# Altium schematic symbol library jlcpcb_2025_04_resistors_extended_1812.schlib: 557 symbols (part 8 of 9)
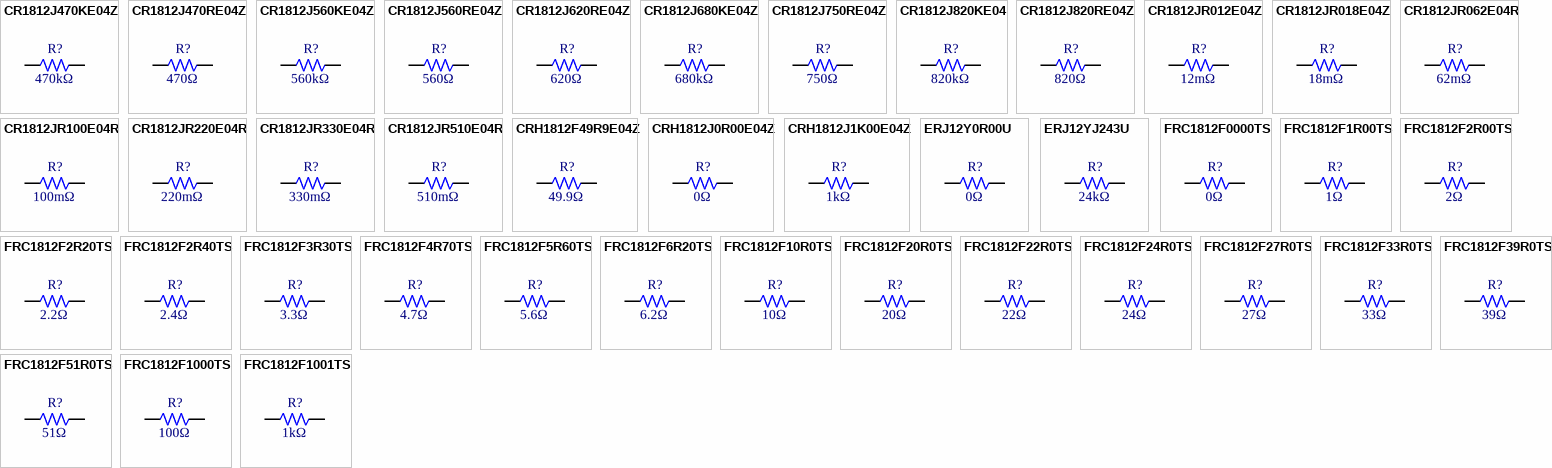
[diagram p20: symbols CR1812J470KE04Z to FRC1812F1001TS]

## FRC1812F1000TS
designator R?  Resistance: 100Ω  (hidden comment: *)
Resistor, 100Ω, ±1%, 750mW, 200V, ±100ppm/℃, -55℃~+155℃, SMD 1812; Manufacturer: Uniroyal; Manufacturer Part Number: FRC1812F1000TS; Supplier 1: LCSC; Supplier Part Number 1: C2960853; JLCPCB Part Number: C2960853; Power Rating: 750mW; Category: Resistors; Package Size: 1812; JLCPCB Basic Part: Yes; Tolerance: ±1%; Voltage Rating: 200V; Temperature Coefficient: ±100ppm/℃; Temperature Rating: -55℃~+155℃; ComponentLink1Description: Datasheet; ComponentLink1URL: https://wmsc.lcsc.com/wmsc/upload/file/pdf/v2/lcsc/2308241947_FOJAN-FRC1812F1000TS_C2960853.pdf; ComponentLink2Description: JLCPCB Part URL; ComponentLink2URL: https://jlcpcb.com/partdetail/C2960853
pins: 1, 2
1 alternate drawing of the same symbol

## FRC1812F1001TS
designator R?  Resistance: 1kΩ  (hidden comment: *)
Resistor, 1kΩ, ±1%, 750mW, 200V, ±100ppm/℃, -55℃~+155℃, SMD 1812; Manufacturer: Uniroyal; Manufacturer Part Number: FRC1812F1001TS; Supplier 1: LCSC; Supplier Part Number 1: C2960710; JLCPCB Part Number: C2960710; Power Rating: 750mW; Category: Resistors; Package Size: 1812; JLCPCB Basic Part: Yes; Tolerance: ±1%; Voltage Rating: 200V; Temperature Coefficient: ±100ppm/℃; Temperature Rating: -55℃~+155℃; ComponentLink1Description: Datasheet; ComponentLink1URL: https://wmsc.lcsc.com/wmsc/upload/file/pdf/v2/lcsc/2308241947_FOJAN-FRC1812F1001TS_C2960710.pdf; ComponentLink2Description: JLCPCB Part URL; ComponentLink2URL: https://jlcpcb.com/partdetail/C2960710
pins: 1, 2
1 alternate drawing of the same symbol

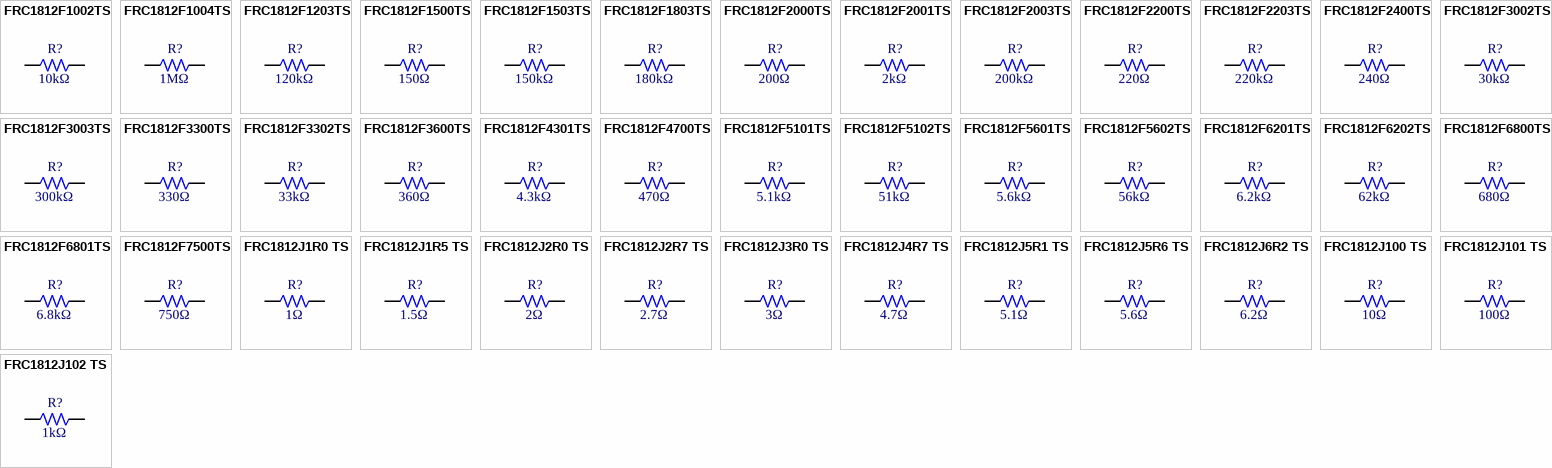
[diagram p11: symbols FRC1812F1002TS to FRC1812J102 TS]

## FRC1812F1002TS
designator R?  Resistance: 10kΩ  (hidden comment: *)
Resistor, 10kΩ, ±1%, 750mW, 200V, SMD 1812; Manufacturer: Uniroyal; Manufacturer Part Number: FRC1812F1002TS; Supplier 1: LCSC; Supplier Part Number 1: C2999614; JLCPCB Part Number: C2999614; Power Rating: 750mW; Category: Resistors; Package Size: 1812; JLCPCB Basic Part: Yes; Tolerance: ±1%; Voltage Rating: 200V; ComponentLink1Description: Datasheet; ComponentLink1URL: https://wmsc.lcsc.com/wmsc/upload/file/pdf/v2/lcsc/2308241947_FOJAN-FRC1812F1002TS_C2999614.pdf; ComponentLink2Description: JLCPCB Part URL; ComponentLink2URL: https://jlcpcb.com/partdetail/C2999614
pins: 1, 2
1 alternate drawing of the same symbol

## FRC1812F1004TS
designator R?  Resistance: 1MΩ  (hidden comment: *)
Resistor, 1MΩ, ±1%, 750mW, 200V, ±100ppm/℃, -55℃~+155℃, SMD 1812; Manufacturer: Uniroyal; Manufacturer Part Number: FRC1812F1004TS; Supplier 1: LCSC; Supplier Part Number 1: C2933874; JLCPCB Part Number: C2933874; Power Rating: 750mW; Category: Resistors; Package Size: 1812; JLCPCB Basic Part: Yes; Tolerance: ±1%; Voltage Rating: 200V; Temperature Coefficient: ±100ppm/℃; Temperature Rating: -55℃~+155℃; ComponentLink1Description: Datasheet; ComponentLink1URL: https://wmsc.lcsc.com/wmsc/upload/file/pdf/v2/lcsc/2308241115_FOJAN-FRC1812F1004TS_C2933874.pdf; ComponentLink2Description: JLCPCB Part URL; ComponentLink2URL: https://jlcpcb.com/partdetail/C2933874
pins: 1, 2
1 alternate drawing of the same symbol

## FRC1812F1203TS
designator R?  Resistance: 120kΩ  (hidden comment: *)
Resistor, 120kΩ, ±1%, 750mW, 200V, ±100ppm/℃, -55℃~+155℃, SMD 1812; Manufacturer: Uniroyal; Manufacturer Part Number: FRC1812F1203TS; Supplier 1: LCSC; Supplier Part Number 1: C2933876; JLCPCB Part Number: C2933876; Power Rating: 750mW; Category: Resistors; Package Size: 1812; JLCPCB Basic Part: Yes; Tolerance: ±1%; Voltage Rating: 200V; Temperature Coefficient: ±100ppm/℃; Temperature Rating: -55℃~+155℃; ComponentLink1Description: Datasheet; ComponentLink1URL: https://wmsc.lcsc.com/wmsc/upload/file/pdf/v2/lcsc/2308241115_FOJAN-FRC1812F1203TS_C2933876.pdf; ComponentLink2Description: JLCPCB Part URL; ComponentLink2URL: https://jlcpcb.com/partdetail/C2933876
pins: 1, 2
1 alternate drawing of the same symbol

## FRC1812F1500TS
designator R?  Resistance: 150Ω  (hidden comment: *)
Resistor, 150Ω, ±1%, 750mW, 200V, ±100ppm/℃, -55℃~+155℃, SMD 1812; Manufacturer: Uniroyal; Manufacturer Part Number: FRC1812F1500TS; Supplier 1: LCSC; Supplier Part Number 1: C2933878; JLCPCB Part Number: C2933878; Power Rating: 750mW; Category: Resistors; Package Size: 1812; JLCPCB Basic Part: Yes; Tolerance: ±1%; Voltage Rating: 200V; Temperature Coefficient: ±100ppm/℃; Temperature Rating: -55℃~+155℃; ComponentLink1Description: Datasheet; ComponentLink1URL: https://wmsc.lcsc.com/wmsc/upload/file/pdf/v2/lcsc/2308241115_FOJAN-FRC1812F1500TS_C2933878.pdf; ComponentLink2Description: JLCPCB Part URL; ComponentLink2URL: https://jlcpcb.com/partdetail/C2933878
pins: 1, 2
1 alternate drawing of the same symbol

## FRC1812F1503TS
designator R?  Resistance: 150kΩ  (hidden comment: *)
Resistor, 150kΩ, ±1%, 750mW, 200V, ±100ppm/℃, -55℃~+155℃, SMD 1812; Manufacturer: Uniroyal; Manufacturer Part Number: FRC1812F1503TS; Supplier 1: LCSC; Supplier Part Number 1: C2933879; JLCPCB Part Number: C2933879; Power Rating: 750mW; Category: Resistors; Package Size: 1812; JLCPCB Basic Part: Yes; Tolerance: ±1%; Voltage Rating: 200V; Temperature Coefficient: ±100ppm/℃; Temperature Rating: -55℃~+155℃; ComponentLink1Description: Datasheet; ComponentLink1URL: https://wmsc.lcsc.com/wmsc/upload/file/pdf/v2/lcsc/2308241115_FOJAN-FRC1812F1503TS_C2933879.pdf; ComponentLink2Description: JLCPCB Part URL; ComponentLink2URL: https://jlcpcb.com/partdetail/C2933879
pins: 1, 2
1 alternate drawing of the same symbol

## FRC1812F1803TS
designator R?  Resistance: 180kΩ  (hidden comment: *)
Resistor, 180kΩ, ±1%, 750mW, 200V, ±100ppm/℃, -55℃~+155℃, SMD 1812; Manufacturer: Uniroyal; Manufacturer Part Number: FRC1812F1803TS; Supplier 1: LCSC; Supplier Part Number 1: C2933882; JLCPCB Part Number: C2933882; Power Rating: 750mW; Category: Resistors; Package Size: 1812; JLCPCB Basic Part: Yes; Tolerance: ±1%; Voltage Rating: 200V; Temperature Coefficient: ±100ppm/℃; Temperature Rating: -55℃~+155℃; ComponentLink1Description: Datasheet; ComponentLink1URL: https://wmsc.lcsc.com/wmsc/upload/file/pdf/v2/lcsc/2308241115_FOJAN-FRC1812F1803TS_C2933882.pdf; ComponentLink2Description: JLCPCB Part URL; ComponentLink2URL: https://jlcpcb.com/partdetail/C2933882
pins: 1, 2
1 alternate drawing of the same symbol

## FRC1812F2000TS
designator R?  Resistance: 200Ω  (hidden comment: *)
Resistor, 200Ω, ±1%, 750mW, 200V, ±100ppm/℃, -55℃~+155℃, SMD 1812; Manufacturer: Uniroyal; Manufacturer Part Number: FRC1812F2000TS; Supplier 1: LCSC; Supplier Part Number 1: C2974073; JLCPCB Part Number: C2974073; Power Rating: 750mW; Category: Resistors; Package Size: 1812; JLCPCB Basic Part: Yes; Tolerance: ±1%; Voltage Rating: 200V; Temperature Coefficient: ±100ppm/℃; Temperature Rating: -55℃~+155℃; ComponentLink1Description: Datasheet; ComponentLink1URL: https://wmsc.lcsc.com/wmsc/upload/file/pdf/v2/lcsc/2202151130_FOJAN-FRC1812F2000TS_C2974073.pdf; ComponentLink2Description: JLCPCB Part URL; ComponentLink2URL: https://jlcpcb.com/partdetail/C2974073
pins: 1, 2
1 alternate drawing of the same symbol

## FRC1812F2001TS
designator R?  Resistance: 2kΩ  (hidden comment: *)
Resistor, 2kΩ, ±1%, 750mW, 200V, ±100ppm/℃, SMD 1812; Manufacturer: Uniroyal; Manufacturer Part Number: FRC1812F2001TS; Supplier 1: LCSC; Supplier Part Number 1: C2999579; JLCPCB Part Number: C2999579; Power Rating: 750mW; Category: Resistors; Package Size: 1812; JLCPCB Basic Part: Yes; Tolerance: ±1%; Voltage Rating: 200V; Temperature Coefficient: ±100ppm/℃; ComponentLink1Description: Datasheet; ComponentLink1URL: https://wmsc.lcsc.com/wmsc/upload/file/pdf/v2/lcsc/2308241947_FOJAN-FRC1812F2001TS_C2999579.pdf; ComponentLink2Description: JLCPCB Part URL; ComponentLink2URL: https://jlcpcb.com/partdetail/C2999579
pins: 1, 2
1 alternate drawing of the same symbol

## FRC1812F2003TS
designator R?  Resistance: 200kΩ  (hidden comment: *)
Resistor, 200kΩ, ±1%, 750mW, 200V, ±100ppm/℃, -55℃~+155℃, SMD 1812; Manufacturer: Uniroyal; Manufacturer Part Number: FRC1812F2003TS; Supplier 1: LCSC; Supplier Part Number 1: C2933883; JLCPCB Part Number: C2933883; Power Rating: 750mW; Category: Resistors; Package Size: 1812; JLCPCB Basic Part: Yes; Tolerance: ±1%; Voltage Rating: 200V; Temperature Coefficient: ±100ppm/℃; Temperature Rating: -55℃~+155℃; ComponentLink1Description: Datasheet; ComponentLink1URL: https://wmsc.lcsc.com/wmsc/upload/file/pdf/v2/lcsc/2308241115_FOJAN-FRC1812F2003TS_C2933883.pdf; ComponentLink2Description: JLCPCB Part URL; ComponentLink2URL: https://jlcpcb.com/partdetail/C2933883
pins: 1, 2
1 alternate drawing of the same symbol

## FRC1812F2200TS
designator R?  Resistance: 220Ω  (hidden comment: *)
Resistor, 220Ω, ±1%, 750mW, 200V, ±100ppm/℃, -55℃~+155℃, SMD 1812; Manufacturer: Uniroyal; Manufacturer Part Number: FRC1812F2200TS; Supplier 1: LCSC; Supplier Part Number 1: C2960905; JLCPCB Part Number: C2960905; Power Rating: 750mW; Category: Resistors; Package Size: 1812; JLCPCB Basic Part: Yes; Tolerance: ±1%; Voltage Rating: 200V; Temperature Coefficient: ±100ppm/℃; Temperature Rating: -55℃~+155℃; ComponentLink1Description: Datasheet; ComponentLink1URL: https://wmsc.lcsc.com/wmsc/upload/file/pdf/v2/lcsc/2308241947_FOJAN-FRC1812F2200TS_C2960905.pdf; ComponentLink2Description: JLCPCB Part URL; ComponentLink2URL: https://jlcpcb.com/partdetail/C2960905
pins: 1, 2
1 alternate drawing of the same symbol

## FRC1812F2203TS
designator R?  Resistance: 220kΩ  (hidden comment: *)
Resistor, 220kΩ, ±1%, 750mW, 200V, ±100ppm/℃, -55℃~+155℃, SMD 1812; Manufacturer: Uniroyal; Manufacturer Part Number: FRC1812F2203TS; Supplier 1: LCSC; Supplier Part Number 1: C2933885; JLCPCB Part Number: C2933885; Power Rating: 750mW; Category: Resistors; Package Size: 1812; JLCPCB Basic Part: Yes; Tolerance: ±1%; Voltage Rating: 200V; Temperature Coefficient: ±100ppm/℃; Temperature Rating: -55℃~+155℃; ComponentLink1Description: Datasheet; ComponentLink1URL: https://wmsc.lcsc.com/wmsc/upload/file/pdf/v2/lcsc/2308241115_FOJAN-FRC1812F2203TS_C2933885.pdf; ComponentLink2Description: JLCPCB Part URL; ComponentLink2URL: https://jlcpcb.com/partdetail/C2933885
pins: 1, 2
1 alternate drawing of the same symbol

## FRC1812F2400TS
designator R?  Resistance: 240Ω  (hidden comment: *)
Resistor, 240Ω, ±1%, 750mW, 200V, ±100ppm/℃, -55℃~+155℃, SMD 1812; Manufacturer: Uniroyal; Manufacturer Part Number: FRC1812F2400TS; Supplier 1: LCSC; Supplier Part Number 1: C2933886; JLCPCB Part Number: C2933886; Power Rating: 750mW; Category: Resistors; Package Size: 1812; JLCPCB Basic Part: Yes; Tolerance: ±1%; Voltage Rating: 200V; Temperature Coefficient: ±100ppm/℃; Temperature Rating: -55℃~+155℃; ComponentLink1Description: Datasheet; ComponentLink1URL: https://wmsc.lcsc.com/wmsc/upload/file/pdf/v2/lcsc/2308241115_FOJAN-FRC1812F2400TS_C2933886.pdf; ComponentLink2Description: JLCPCB Part URL; ComponentLink2URL: https://jlcpcb.com/partdetail/C2933886
pins: 1, 2
1 alternate drawing of the same symbol

## FRC1812F3002TS
designator R?  Resistance: 30kΩ  (hidden comment: *)
Resistor, 30kΩ, ±1%, 750mW, 200V, ±100ppm/℃, -55℃~+155℃, SMD 1812; Manufacturer: Uniroyal; Manufacturer Part Number: FRC1812F3002TS; Supplier 1: LCSC; Supplier Part Number 1: C2933893; JLCPCB Part Number: C2933893; Power Rating: 750mW; Category: Resistors; Package Size: 1812; JLCPCB Basic Part: Yes; Tolerance: ±1%; Voltage Rating: 200V; Temperature Coefficient: ±100ppm/℃; Temperature Rating: -55℃~+155℃; ComponentLink1Description: Datasheet; ComponentLink1URL: https://wmsc.lcsc.com/wmsc/upload/file/pdf/v2/lcsc/2308241115_FOJAN-FRC1812F3002TS_C2933893.pdf; ComponentLink2Description: JLCPCB Part URL; ComponentLink2URL: https://jlcpcb.com/partdetail/C2933893
pins: 1, 2
1 alternate drawing of the same symbol

## FRC1812F3003TS
designator R?  Resistance: 300kΩ  (hidden comment: *)
Resistor, 300kΩ, ±1%, 750mW, 200V, ±100ppm/℃, SMD 1812; Manufacturer: Uniroyal; Manufacturer Part Number: FRC1812F3003TS; Supplier 1: LCSC; Supplier Part Number 1: C3013292; JLCPCB Part Number: C3013292; Power Rating: 750mW; Category: Resistors; Package Size: 1812; JLCPCB Basic Part: Yes; Tolerance: ±1%; Voltage Rating: 200V; Temperature Coefficient: ±100ppm/℃; ComponentLink1Description: Datasheet; ComponentLink1URL: https://wmsc.lcsc.com/wmsc/upload/file/pdf/v2/lcsc/2308241947_FOJAN-FRC1812F3003TS_C3013292.pdf; ComponentLink2Description: JLCPCB Part URL; ComponentLink2URL: https://jlcpcb.com/partdetail/C3013292
pins: 1, 2
1 alternate drawing of the same symbol

## FRC1812F3300TS
designator R?  Resistance: 330Ω  (hidden comment: *)
Resistor, 330Ω, ±1%, 750mW, 200V, ±100ppm/℃, -55℃~+155℃, SMD 1812; Manufacturer: Uniroyal; Manufacturer Part Number: FRC1812F3300TS; Supplier 1: LCSC; Supplier Part Number 1: C2960867; JLCPCB Part Number: C2960867; Power Rating: 750mW; Category: Resistors; Package Size: 1812; JLCPCB Basic Part: Yes; Tolerance: ±1%; Voltage Rating: 200V; Temperature Coefficient: ±100ppm/℃; Temperature Rating: -55℃~+155℃; ComponentLink1Description: Datasheet; ComponentLink1URL: https://wmsc.lcsc.com/wmsc/upload/file/pdf/v2/lcsc/2308241947_FOJAN-FRC1812F3300TS_C2960867.pdf; ComponentLink2Description: JLCPCB Part URL; ComponentLink2URL: https://jlcpcb.com/partdetail/C2960867
pins: 1, 2
1 alternate drawing of the same symbol

## FRC1812F3302TS
designator R?  Resistance: 33kΩ  (hidden comment: *)
Resistor, 33kΩ, ±1%, 750mW, 200V, ±100ppm/℃, -55℃~+155℃, SMD 1812; Manufacturer: Uniroyal; Manufacturer Part Number: FRC1812F3302TS; Supplier 1: LCSC; Supplier Part Number 1: C2960884; JLCPCB Part Number: C2960884; Power Rating: 750mW; Category: Resistors; Package Size: 1812; JLCPCB Basic Part: Yes; Tolerance: ±1%; Voltage Rating: 200V; Temperature Coefficient: ±100ppm/℃; Temperature Rating: -55℃~+155℃; ComponentLink1Description: Datasheet; ComponentLink1URL: https://wmsc.lcsc.com/wmsc/upload/file/pdf/v2/lcsc/2308241947_FOJAN-FRC1812F3302TS_C2960884.pdf; ComponentLink2Description: JLCPCB Part URL; ComponentLink2URL: https://jlcpcb.com/partdetail/C2960884
pins: 1, 2
1 alternate drawing of the same symbol

## FRC1812F3600TS
designator R?  Resistance: 360Ω  (hidden comment: *)
Resistor, 360Ω, ±1%, 750mW, 200V, ±100ppm/℃, -55℃~+155℃, SMD 1812; Manufacturer: Uniroyal; Manufacturer Part Number: FRC1812F3600TS; Supplier 1: LCSC; Supplier Part Number 1: C2933895; JLCPCB Part Number: C2933895; Power Rating: 750mW; Category: Resistors; Package Size: 1812; JLCPCB Basic Part: Yes; Tolerance: ±1%; Voltage Rating: 200V; Temperature Coefficient: ±100ppm/℃; Temperature Rating: -55℃~+155℃; ComponentLink1Description: Datasheet; ComponentLink1URL: https://wmsc.lcsc.com/wmsc/upload/file/pdf/v2/lcsc/2308241115_FOJAN-FRC1812F3600TS_C2933895.pdf; ComponentLink2Description: JLCPCB Part URL; ComponentLink2URL: https://jlcpcb.com/partdetail/C2933895
pins: 1, 2
1 alternate drawing of the same symbol

## FRC1812F4301TS
designator R?  Resistance: 4.3kΩ  (hidden comment: *)
Resistor, 4.3kΩ, ±1%, 750mW, 200V, ±100ppm/℃, SMD 1812; Manufacturer: Uniroyal; Manufacturer Part Number: FRC1812F4301TS; Supplier 1: LCSC; Supplier Part Number 1: C3000760; JLCPCB Part Number: C3000760; Power Rating: 750mW; Category: Resistors; Package Size: 1812; JLCPCB Basic Part: Yes; Tolerance: ±1%; Voltage Rating: 200V; Temperature Coefficient: ±100ppm/℃; ComponentLink1Description: Datasheet; ComponentLink1URL: https://wmsc.lcsc.com/wmsc/upload/file/pdf/v2/lcsc/2308241947_FOJAN-FRC1812F4301TS_C3000760.pdf; ComponentLink2Description: JLCPCB Part URL; ComponentLink2URL: https://jlcpcb.com/partdetail/C3000760
pins: 1, 2
1 alternate drawing of the same symbol

## FRC1812F4700TS
designator R?  Resistance: 470Ω  (hidden comment: *)
Resistor, 470Ω, ±1%, 750mW, 200V, ±100ppm/℃, -55℃~+155℃, SMD 1812; Manufacturer: Uniroyal; Manufacturer Part Number: FRC1812F4700TS; Supplier 1: LCSC; Supplier Part Number 1: C2933896; JLCPCB Part Number: C2933896; Power Rating: 750mW; Category: Resistors; Package Size: 1812; JLCPCB Basic Part: Yes; Tolerance: ±1%; Voltage Rating: 200V; Temperature Coefficient: ±100ppm/℃; Temperature Rating: -55℃~+155℃; ComponentLink1Description: Datasheet; ComponentLink1URL: https://wmsc.lcsc.com/wmsc/upload/file/pdf/v2/lcsc/2308241115_FOJAN-FRC1812F4700TS_C2933896.pdf; ComponentLink2Description: JLCPCB Part URL; ComponentLink2URL: https://jlcpcb.com/partdetail/C2933896
pins: 1, 2
1 alternate drawing of the same symbol

## FRC1812F5101TS
designator R?  Resistance: 5.1kΩ  (hidden comment: *)
Resistor, 5.1kΩ, ±1%, 750mW, 200V, ±100ppm/℃, -55℃~+155℃, SMD 1812; Manufacturer: Uniroyal; Manufacturer Part Number: FRC1812F5101TS; Supplier 1: LCSC; Supplier Part Number 1: C2933899; JLCPCB Part Number: C2933899; Power Rating: 750mW; Category: Resistors; Package Size: 1812; JLCPCB Basic Part: Yes; Tolerance: ±1%; Voltage Rating: 200V; Temperature Coefficient: ±100ppm/℃; Temperature Rating: -55℃~+155℃; ComponentLink1Description: Datasheet; ComponentLink1URL: https://wmsc.lcsc.com/wmsc/upload/file/pdf/v2/lcsc/2308241115_FOJAN-FRC1812F5101TS_C2933899.pdf; ComponentLink2Description: JLCPCB Part URL; ComponentLink2URL: https://jlcpcb.com/partdetail/C2933899
pins: 1, 2
1 alternate drawing of the same symbol

## FRC1812F5102TS
designator R?  Resistance: 51kΩ  (hidden comment: *)
Resistor, 51kΩ, ±1%, 750mW, 200V, ±100ppm/℃, -55℃~+155℃, SMD 1812; Manufacturer: Uniroyal; Manufacturer Part Number: FRC1812F5102TS; Supplier 1: LCSC; Supplier Part Number 1: C2933900; JLCPCB Part Number: C2933900; Power Rating: 750mW; Category: Resistors; Package Size: 1812; JLCPCB Basic Part: Yes; Tolerance: ±1%; Voltage Rating: 200V; Temperature Coefficient: ±100ppm/℃; Temperature Rating: -55℃~+155℃; ComponentLink1Description: Datasheet; ComponentLink1URL: https://wmsc.lcsc.com/wmsc/upload/file/pdf/v2/lcsc/2308241115_FOJAN-FRC1812F5102TS_C2933900.pdf; ComponentLink2Description: JLCPCB Part URL; ComponentLink2URL: https://jlcpcb.com/partdetail/C2933900
pins: 1, 2
1 alternate drawing of the same symbol

## FRC1812F5601TS
designator R?  Resistance: 5.6kΩ  (hidden comment: *)
Resistor, 5.6kΩ, ±1%, 750mW, 200V, ±100ppm/℃, SMD 1812; Manufacturer: Uniroyal; Manufacturer Part Number: FRC1812F5601TS; Supplier 1: LCSC; Supplier Part Number 1: C3000548; JLCPCB Part Number: C3000548; Power Rating: 750mW; Category: Resistors; Package Size: 1812; JLCPCB Basic Part: Yes; Tolerance: ±1%; Voltage Rating: 200V; Temperature Coefficient: ±100ppm/℃; ComponentLink1Description: Datasheet; ComponentLink1URL: https://wmsc.lcsc.com/wmsc/upload/file/pdf/v2/lcsc/2308241947_FOJAN-FRC1812F5601TS_C3000548.pdf; ComponentLink2Description: JLCPCB Part URL; ComponentLink2URL: https://jlcpcb.com/partdetail/C3000548
pins: 1, 2
1 alternate drawing of the same symbol

## FRC1812F5602TS
designator R?  Resistance: 56kΩ  (hidden comment: *)
Resistor, 56kΩ, ±1%, 750mW, 200V, ±100ppm/℃, -55℃~+155℃, SMD 1812; Manufacturer: Uniroyal; Manufacturer Part Number: FRC1812F5602TS; Supplier 1: LCSC; Supplier Part Number 1: C2933902; JLCPCB Part Number: C2933902; Power Rating: 750mW; Category: Resistors; Package Size: 1812; JLCPCB Basic Part: Yes; Tolerance: ±1%; Voltage Rating: 200V; Temperature Coefficient: ±100ppm/℃; Temperature Rating: -55℃~+155℃; ComponentLink1Description: Datasheet; ComponentLink1URL: https://wmsc.lcsc.com/wmsc/upload/file/pdf/v2/lcsc/2308241115_FOJAN-FRC1812F5602TS_C2933902.pdf; ComponentLink2Description: JLCPCB Part URL; ComponentLink2URL: https://jlcpcb.com/partdetail/C2933902
pins: 1, 2
1 alternate drawing of the same symbol

## FRC1812F6201TS
designator R?  Resistance: 6.2kΩ  (hidden comment: *)
Resistor, 6.2kΩ, ±1%, 750mW, 200V, ±100ppm/℃, -55℃~+155℃, SMD 1812; Manufacturer: Uniroyal; Manufacturer Part Number: FRC1812F6201TS; Supplier 1: LCSC; Supplier Part Number 1: C2933905; JLCPCB Part Number: C2933905; Power Rating: 750mW; Category: Resistors; Package Size: 1812; JLCPCB Basic Part: Yes; Tolerance: ±1%; Voltage Rating: 200V; Temperature Coefficient: ±100ppm/℃; Temperature Rating: -55℃~+155℃; ComponentLink1Description: Datasheet; ComponentLink1URL: https://wmsc.lcsc.com/wmsc/upload/file/pdf/v2/lcsc/2308241115_FOJAN-FRC1812F6201TS_C2933905.pdf; ComponentLink2Description: JLCPCB Part URL; ComponentLink2URL: https://jlcpcb.com/partdetail/C2933905
pins: 1, 2
1 alternate drawing of the same symbol

## FRC1812F6202TS
designator R?  Resistance: 62kΩ  (hidden comment: *)
Resistor, 62kΩ, ±1%, 750mW, 200V, ±100ppm/℃, -55℃~+155℃, SMD 1812; Manufacturer: Uniroyal; Manufacturer Part Number: FRC1812F6202TS; Supplier 1: LCSC; Supplier Part Number 1: C2974076; JLCPCB Part Number: C2974076; Power Rating: 750mW; Category: Resistors; Package Size: 1812; JLCPCB Basic Part: Yes; Tolerance: ±1%; Voltage Rating: 200V; Temperature Coefficient: ±100ppm/℃; Temperature Rating: -55℃~+155℃; ComponentLink1Description: Datasheet; ComponentLink1URL: https://wmsc.lcsc.com/wmsc/upload/file/pdf/v2/lcsc/2202151130_FOJAN-FRC1812F6202TS_C2974076.pdf; ComponentLink2Description: JLCPCB Part URL; ComponentLink2URL: https://jlcpcb.com/partdetail/C2974076
pins: 1, 2
1 alternate drawing of the same symbol

## FRC1812F6800TS
designator R?  Resistance: 680Ω  (hidden comment: *)
Resistor, 680Ω, ±1%, 750mW, 200V, ±100ppm/℃, -55℃~+155℃, SMD 1812; Manufacturer: Uniroyal; Manufacturer Part Number: FRC1812F6800TS; Supplier 1: LCSC; Supplier Part Number 1: C2974077; JLCPCB Part Number: C2974077; Power Rating: 750mW; Category: Resistors; Package Size: 1812; JLCPCB Basic Part: Yes; Tolerance: ±1%; Voltage Rating: 200V; Temperature Coefficient: ±100ppm/℃; Temperature Rating: -55℃~+155℃; ComponentLink1Description: Datasheet; ComponentLink1URL: https://wmsc.lcsc.com/wmsc/upload/file/pdf/v2/lcsc/2202151130_FOJAN-FRC1812F6800TS_C2974077.pdf; ComponentLink2Description: JLCPCB Part URL; ComponentLink2URL: https://jlcpcb.com/partdetail/C2974077
pins: 1, 2
1 alternate drawing of the same symbol

## FRC1812F6801TS
designator R?  Resistance: 6.8kΩ  (hidden comment: *)
Resistor, 6.8kΩ, ±1%, 750mW, 200V, ±100ppm/℃, -55℃~+155℃, SMD 1812; Manufacturer: Uniroyal; Manufacturer Part Number: FRC1812F6801TS; Supplier 1: LCSC; Supplier Part Number 1: C2933906; JLCPCB Part Number: C2933906; Power Rating: 750mW; Category: Resistors; Package Size: 1812; JLCPCB Basic Part: Yes; Tolerance: ±1%; Voltage Rating: 200V; Temperature Coefficient: ±100ppm/℃; Temperature Rating: -55℃~+155℃; ComponentLink1Description: Datasheet; ComponentLink1URL: https://wmsc.lcsc.com/wmsc/upload/file/pdf/v2/lcsc/2308241115_FOJAN-FRC1812F6801TS_C2933906.pdf; ComponentLink2Description: JLCPCB Part URL; ComponentLink2URL: https://jlcpcb.com/partdetail/C2933906
pins: 1, 2
1 alternate drawing of the same symbol

## FRC1812F7500TS
designator R?  Resistance: 750Ω  (hidden comment: *)
Resistor, 750Ω, ±1%, 750mW, 200V, ±100ppm/℃, -55℃~+155℃, SMD 1812; Manufacturer: Uniroyal; Manufacturer Part Number: FRC1812F7500TS; Supplier 1: LCSC; Supplier Part Number 1: C2933908; JLCPCB Part Number: C2933908; Power Rating: 750mW; Category: Resistors; Package Size: 1812; JLCPCB Basic Part: Yes; Tolerance: ±1%; Voltage Rating: 200V; Temperature Coefficient: ±100ppm/℃; Temperature Rating: -55℃~+155℃; ComponentLink1Description: Datasheet; ComponentLink1URL: https://wmsc.lcsc.com/wmsc/upload/file/pdf/v2/lcsc/2308241115_FOJAN-FRC1812F7500TS_C2933908.pdf; ComponentLink2Description: JLCPCB Part URL; ComponentLink2URL: https://jlcpcb.com/partdetail/C2933908
pins: 1, 2
1 alternate drawing of the same symbol

## FRC1812J1R0 TS
designator R?  Resistance: 1Ω  (hidden comment: *)
Resistor, 1Ω, ±5%, 750mW, 200V, ±200ppm/℃, -55℃~+155℃, SMD 1812; Manufacturer: Uniroyal; Manufacturer Part Number: FRC1812J1R0 TS; Supplier 1: LCSC; Supplier Part Number 1: C2933931; JLCPCB Part Number: C2933931; Power Rating: 750mW; Category: Resistors; Package Size: 1812; JLCPCB Basic Part: Yes; Tolerance: ±5%; Voltage Rating: 200V; Temperature Coefficient: ±200ppm/℃; Temperature Rating: -55℃~+155℃; ComponentLink1Description: Datasheet; ComponentLink1URL: https://wmsc.lcsc.com/wmsc/upload/file/pdf/v2/lcsc/2308241947_FOJAN-FRC1812J1R0-TS_C2933931.pdf; ComponentLink2Description: JLCPCB Part URL; ComponentLink2URL: https://jlcpcb.com/partdetail/C2933931
pins: 1, 2
1 alternate drawing of the same symbol

## FRC1812J1R5 TS
designator R?  Resistance: 1.5Ω  (hidden comment: *)
Resistor, 1.5Ω, ±5%, 750mW, 200V, ±200ppm/℃, SMD 1812; Manufacturer: Uniroyal; Manufacturer Part Number: FRC1812J1R5 TS; Supplier 1: LCSC; Supplier Part Number 1: C5126019; JLCPCB Part Number: C5126019; Power Rating: 750mW; Category: Resistors; Package Size: 1812; JLCPCB Basic Part: Yes; Tolerance: ±5%; Voltage Rating: 200V; Temperature Coefficient: ±200ppm/℃; ComponentLink1Description: Datasheet; ComponentLink1URL: https://wmsc.lcsc.com/wmsc/upload/file/pdf/v2/lcsc/2308241947_FOJAN-FRC1812J1R5-TS_C5126019.pdf; ComponentLink2Description: JLCPCB Part URL; ComponentLink2URL: https://jlcpcb.com/partdetail/C5126019
pins: 1, 2
1 alternate drawing of the same symbol

## FRC1812J2R0 TS
designator R?  Resistance: 2Ω  (hidden comment: *)
Resistor, 2Ω, ±5%, 750mW, 200V, ±200ppm/℃, -55℃~+155℃, SMD 1812; Manufacturer: Uniroyal; Manufacturer Part Number: FRC1812J2R0 TS; Supplier 1: LCSC; Supplier Part Number 1: C2933943; JLCPCB Part Number: C2933943; Power Rating: 750mW; Category: Resistors; Package Size: 1812; JLCPCB Basic Part: Yes; Tolerance: ±5%; Voltage Rating: 200V; Temperature Coefficient: ±200ppm/℃; Temperature Rating: -55℃~+155℃; ComponentLink1Description: Datasheet; ComponentLink1URL: https://wmsc.lcsc.com/wmsc/upload/file/pdf/v2/lcsc/2308241947_FOJAN-FRC1812J2R0-TS_C2933943.pdf; ComponentLink2Description: JLCPCB Part URL; ComponentLink2URL: https://jlcpcb.com/partdetail/C2933943
pins: 1, 2
1 alternate drawing of the same symbol

## FRC1812J2R7 TS
designator R?  Resistance: 2.7Ω  (hidden comment: *)
Resistor, 2.7Ω, ±5%, 750mW, 200V, ±200ppm/℃, -55℃~+155℃, SMD 1812; Manufacturer: Uniroyal; Manufacturer Part Number: FRC1812J2R7 TS; Supplier 1: LCSC; Supplier Part Number 1: C2933944; JLCPCB Part Number: C2933944; Power Rating: 750mW; Category: Resistors; Package Size: 1812; JLCPCB Basic Part: Yes; Tolerance: ±5%; Voltage Rating: 200V; Temperature Coefficient: ±200ppm/℃; Temperature Rating: -55℃~+155℃; ComponentLink1Description: Datasheet; ComponentLink1URL: https://wmsc.lcsc.com/wmsc/upload/file/pdf/v2/lcsc/2308241947_FOJAN-FRC1812J2R7-TS_C2933944.pdf; ComponentLink2Description: JLCPCB Part URL; ComponentLink2URL: https://jlcpcb.com/partdetail/C2933944
pins: 1, 2
1 alternate drawing of the same symbol

## FRC1812J3R0 TS
designator R?  Resistance: 3Ω  (hidden comment: *)
Resistor, 3Ω, ±5%, 750mW, 200V, ±200ppm/℃, -55℃~+155℃, SMD 1812; Manufacturer: Uniroyal; Manufacturer Part Number: FRC1812J3R0 TS; Supplier 1: LCSC; Supplier Part Number 1: C2933957; JLCPCB Part Number: C2933957; Power Rating: 750mW; Category: Resistors; Package Size: 1812; JLCPCB Basic Part: Yes; Tolerance: ±5%; Voltage Rating: 200V; Temperature Coefficient: ±200ppm/℃; Temperature Rating: -55℃~+155℃; ComponentLink1Description: Datasheet; ComponentLink1URL: https://wmsc.lcsc.com/wmsc/upload/file/pdf/v2/lcsc/2308241947_FOJAN-FRC1812J3R0-TS_C2933957.pdf; ComponentLink2Description: JLCPCB Part URL; ComponentLink2URL: https://jlcpcb.com/partdetail/C2933957
pins: 1, 2
1 alternate drawing of the same symbol

## FRC1812J4R7 TS
designator R?  Resistance: 4.7Ω  (hidden comment: *)
Resistor, 4.7Ω, ±5%, 750mW, 200V, ±200ppm/℃, -55℃~+155℃, SMD 1812; Manufacturer: Uniroyal; Manufacturer Part Number: FRC1812J4R7 TS; Supplier 1: LCSC; Supplier Part Number 1: C2933963; JLCPCB Part Number: C2933963; Power Rating: 750mW; Category: Resistors; Package Size: 1812; JLCPCB Basic Part: Yes; Tolerance: ±5%; Voltage Rating: 200V; Temperature Coefficient: ±200ppm/℃; Temperature Rating: -55℃~+155℃; ComponentLink1Description: Datasheet; ComponentLink1URL: https://wmsc.lcsc.com/wmsc/upload/file/pdf/v2/lcsc/2308241947_FOJAN-FRC1812J4R7-TS_C2933963.pdf; ComponentLink2Description: JLCPCB Part URL; ComponentLink2URL: https://jlcpcb.com/partdetail/C2933963
pins: 1, 2
1 alternate drawing of the same symbol

## FRC1812J5R1 TS
designator R?  Resistance: 5.1Ω  (hidden comment: *)
Resistor, 5.1Ω, ±5%, 750mW, 200V, ±200ppm/℃, -55℃~+155℃, SMD 1812; Manufacturer: Uniroyal; Manufacturer Part Number: FRC1812J5R1 TS; Supplier 1: LCSC; Supplier Part Number 1: C2933968; JLCPCB Part Number: C2933968; Power Rating: 750mW; Category: Resistors; Package Size: 1812; JLCPCB Basic Part: Yes; Tolerance: ±5%; Voltage Rating: 200V; Temperature Coefficient: ±200ppm/℃; Temperature Rating: -55℃~+155℃; ComponentLink1Description: Datasheet; ComponentLink1URL: https://wmsc.lcsc.com/wmsc/upload/file/pdf/v2/lcsc/2308241947_FOJAN-FRC1812J5R1-TS_C2933968.pdf; ComponentLink2Description: JLCPCB Part URL; ComponentLink2URL: https://jlcpcb.com/partdetail/C2933968
pins: 1, 2
1 alternate drawing of the same symbol

## FRC1812J5R6 TS
designator R?  Resistance: 5.6Ω  (hidden comment: *)
Resistor, 5.6Ω, ±5%, 750mW, 200V, ±200ppm/℃, -55℃~+155℃, SMD 1812; Manufacturer: Uniroyal; Manufacturer Part Number: FRC1812J5R6 TS; Supplier 1: LCSC; Supplier Part Number 1: C2933969; JLCPCB Part Number: C2933969; Power Rating: 750mW; Category: Resistors; Package Size: 1812; JLCPCB Basic Part: Yes; Tolerance: ±5%; Voltage Rating: 200V; Temperature Coefficient: ±200ppm/℃; Temperature Rating: -55℃~+155℃; ComponentLink1Description: Datasheet; ComponentLink1URL: https://wmsc.lcsc.com/wmsc/upload/file/pdf/v2/lcsc/2308241947_FOJAN-FRC1812J5R6-TS_C2933969.pdf; ComponentLink2Description: JLCPCB Part URL; ComponentLink2URL: https://jlcpcb.com/partdetail/C2933969
pins: 1, 2
1 alternate drawing of the same symbol

## FRC1812J6R2 TS
designator R?  Resistance: 6.2Ω  (hidden comment: *)
Resistor, 6.2Ω, ±5%, 750mW, 200V, ±200ppm/℃, -55℃~+155℃, SMD 1812; Manufacturer: Uniroyal; Manufacturer Part Number: FRC1812J6R2 TS; Supplier 1: LCSC; Supplier Part Number 1: C2960719; JLCPCB Part Number: C2960719; Power Rating: 750mW; Category: Resistors; Package Size: 1812; JLCPCB Basic Part: Yes; Tolerance: ±5%; Voltage Rating: 200V; Temperature Coefficient: ±200ppm/℃; Temperature Rating: -55℃~+155℃; ComponentLink1Description: Datasheet; ComponentLink1URL: https://wmsc.lcsc.com/wmsc/upload/file/pdf/v2/lcsc/2308241947_FOJAN-FRC1812J6R2-TS_C2960719.pdf; ComponentLink2Description: JLCPCB Part URL; ComponentLink2URL: https://jlcpcb.com/partdetail/C2960719
pins: 1, 2
1 alternate drawing of the same symbol

## FRC1812J100 TS
designator R?  Resistance: 10Ω  (hidden comment: *)
Resistor, 10Ω, ±5%, 750mW, 200V, ±200ppm/℃, -55℃~+155℃, SMD 1812; Manufacturer: Uniroyal; Manufacturer Part Number: FRC1812J100 TS; Supplier 1: LCSC; Supplier Part Number 1: C2933910; JLCPCB Part Number: C2933910; Power Rating: 750mW; Category: Resistors; Package Size: 1812; JLCPCB Basic Part: Yes; Tolerance: ±5%; Voltage Rating: 200V; Temperature Coefficient: ±200ppm/℃; Temperature Rating: -55℃~+155℃; ComponentLink1Description: Datasheet; ComponentLink1URL: https://wmsc.lcsc.com/wmsc/upload/file/pdf/v2/lcsc/2308241115_FOJAN-FRC1812J100-TS_C2933910.pdf; ComponentLink2Description: JLCPCB Part URL; ComponentLink2URL: https://jlcpcb.com/partdetail/C2933910
pins: 1, 2
1 alternate drawing of the same symbol

## FRC1812J101 TS
designator R?  Resistance: 100Ω  (hidden comment: *)
Resistor, 100Ω, ±5%, 750mW, 200V, ±100ppm/℃, -55℃~+155℃, SMD 1812; Manufacturer: Uniroyal; Manufacturer Part Number: FRC1812J101 TS; Supplier 1: LCSC; Supplier Part Number 1: C2933911; JLCPCB Part Number: C2933911; Power Rating: 750mW; Category: Resistors; Package Size: 1812; JLCPCB Basic Part: Yes; Tolerance: ±5%; Voltage Rating: 200V; Temperature Coefficient: ±100ppm/℃; Temperature Rating: -55℃~+155℃; ComponentLink1Description: Datasheet; ComponentLink1URL: https://wmsc.lcsc.com/wmsc/upload/file/pdf/v2/lcsc/2308241115_FOJAN-FRC1812J101-TS_C2933911.pdf; ComponentLink2Description: JLCPCB Part URL; ComponentLink2URL: https://jlcpcb.com/partdetail/C2933911
pins: 1, 2
1 alternate drawing of the same symbol

## FRC1812J102 TS
designator R?  Resistance: 1kΩ  (hidden comment: *)
Resistor, 1kΩ, ±5%, 750mW, 200V, ±100ppm/℃, -55℃~+155℃, SMD 1812; Manufacturer: Uniroyal; Manufacturer Part Number: FRC1812J102 TS; Supplier 1: LCSC; Supplier Part Number 1: C2933912; JLCPCB Part Number: C2933912; Power Rating: 750mW; Category: Resistors; Package Size: 1812; JLCPCB Basic Part: Yes; Tolerance: ±5%; Voltage Rating: 200V; Temperature Coefficient: ±100ppm/℃; Temperature Rating: -55℃~+155℃; ComponentLink1Description: Datasheet; ComponentLink1URL: https://wmsc.lcsc.com/wmsc/upload/file/pdf/v2/lcsc/2308241115_FOJAN-FRC1812J102-TS_C2933912.pdf; ComponentLink2Description: JLCPCB Part URL; ComponentLink2URL: https://jlcpcb.com/partdetail/C2933912
pins: 1, 2
1 alternate drawing of the same symbol

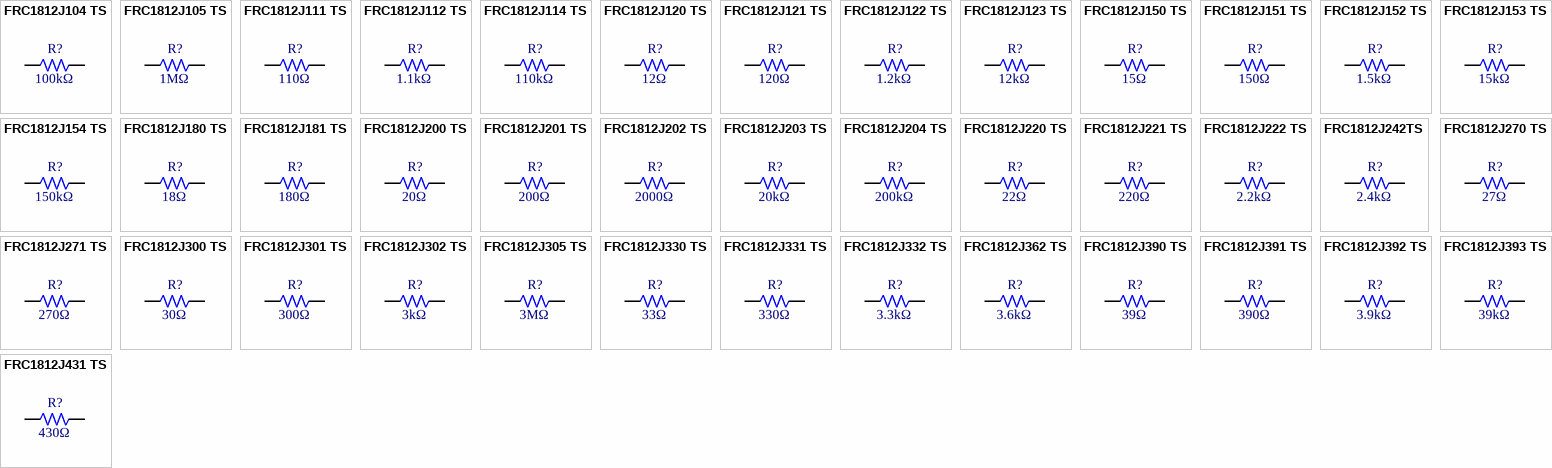
[diagram p12: symbols FRC1812J104 TS to FRC1812J431 TS]

## FRC1812J104 TS
designator R?  Resistance: 100kΩ  (hidden comment: *)
Resistor, 100kΩ, ±5%, 750mW, 200V, ±100ppm/℃, SMD 1812; Manufacturer: Uniroyal; Manufacturer Part Number: FRC1812J104 TS; Supplier 1: LCSC; Supplier Part Number 1: C5146262; JLCPCB Part Number: C5146262; Power Rating: 750mW; Category: Resistors; Package Size: 1812; JLCPCB Basic Part: Yes; Tolerance: ±5%; Voltage Rating: 200V; Temperature Coefficient: ±100ppm/℃; ComponentLink1Description: Datasheet; ComponentLink1URL: https://wmsc.lcsc.com/wmsc/upload/file/pdf/v2/lcsc/2308241947_FOJAN-FRC1812J104-TS_C5146262.pdf; ComponentLink2Description: JLCPCB Part URL; ComponentLink2URL: https://jlcpcb.com/partdetail/C5146262
pins: 1, 2
1 alternate drawing of the same symbol

## FRC1812J105 TS
designator R?  Resistance: 1MΩ  (hidden comment: *)
Resistor, 1MΩ, ±5%, 750mW, 200V, ±100ppm/℃, -55℃~+155℃, SMD 1812; Manufacturer: Uniroyal; Manufacturer Part Number: FRC1812J105 TS; Supplier 1: LCSC; Supplier Part Number 1: C2933914; JLCPCB Part Number: C2933914; Power Rating: 750mW; Category: Resistors; Package Size: 1812; JLCPCB Basic Part: Yes; Tolerance: ±5%; Voltage Rating: 200V; Temperature Coefficient: ±100ppm/℃; Temperature Rating: -55℃~+155℃; ComponentLink1Description: Datasheet; ComponentLink1URL: https://wmsc.lcsc.com/wmsc/upload/file/pdf/v2/lcsc/2308241115_FOJAN-FRC1812J105-TS_C2933914.pdf; ComponentLink2Description: JLCPCB Part URL; ComponentLink2URL: https://jlcpcb.com/partdetail/C2933914
pins: 1, 2
1 alternate drawing of the same symbol

## FRC1812J111 TS
designator R?  Resistance: 110Ω  (hidden comment: *)
Resistor, 110Ω, ±5%, 750mW, 200V, ±100ppm/℃, -55℃~+155℃, SMD 1812; Manufacturer: Uniroyal; Manufacturer Part Number: FRC1812J111 TS; Supplier 1: LCSC; Supplier Part Number 1: C2933916; JLCPCB Part Number: C2933916; Power Rating: 750mW; Category: Resistors; Package Size: 1812; JLCPCB Basic Part: Yes; Tolerance: ±5%; Voltage Rating: 200V; Temperature Coefficient: ±100ppm/℃; Temperature Rating: -55℃~+155℃; ComponentLink1Description: Datasheet; ComponentLink1URL: https://wmsc.lcsc.com/wmsc/upload/file/pdf/v2/lcsc/2308241115_FOJAN-FRC1812J111-TS_C2933916.pdf; ComponentLink2Description: JLCPCB Part URL; ComponentLink2URL: https://jlcpcb.com/partdetail/C2933916
pins: 1, 2
1 alternate drawing of the same symbol

## FRC1812J112 TS
designator R?  Resistance: 1.1kΩ  (hidden comment: *)
Resistor, 1.1kΩ, ±5%, 750mW, 200V, ±100ppm/℃, SMD 1812; Manufacturer: Uniroyal; Manufacturer Part Number: FRC1812J112 TS; Supplier 1: LCSC; Supplier Part Number 1: C3013294; JLCPCB Part Number: C3013294; Power Rating: 750mW; Category: Resistors; Package Size: 1812; JLCPCB Basic Part: Yes; Tolerance: ±5%; Voltage Rating: 200V; Temperature Coefficient: ±100ppm/℃; ComponentLink1Description: Datasheet; ComponentLink1URL: https://wmsc.lcsc.com/wmsc/upload/file/pdf/v2/lcsc/2308241947_FOJAN-FRC1812J112-TS_C3013294.pdf; ComponentLink2Description: JLCPCB Part URL; ComponentLink2URL: https://jlcpcb.com/partdetail/C3013294
pins: 1, 2
1 alternate drawing of the same symbol

## FRC1812J114 TS
designator R?  Resistance: 110kΩ  (hidden comment: *)
Resistor, 110kΩ, ±5%, 750mW, 200V, ±100ppm/℃, -55℃~+155℃, SMD 1812; Manufacturer: Uniroyal; Manufacturer Part Number: FRC1812J114 TS; Supplier 1: LCSC; Supplier Part Number 1: C2933917; JLCPCB Part Number: C2933917; Power Rating: 750mW; Category: Resistors; Package Size: 1812; JLCPCB Basic Part: Yes; Tolerance: ±5%; Voltage Rating: 200V; Temperature Coefficient: ±100ppm/℃; Temperature Rating: -55℃~+155℃; ComponentLink1Description: Datasheet; ComponentLink1URL: https://wmsc.lcsc.com/wmsc/upload/file/pdf/v2/lcsc/2308241115_FOJAN-FRC1812J114-TS_C2933917.pdf; ComponentLink2Description: JLCPCB Part URL; ComponentLink2URL: https://jlcpcb.com/partdetail/C2933917
pins: 1, 2
1 alternate drawing of the same symbol

## FRC1812J120 TS
designator R?  Resistance: 12Ω  (hidden comment: *)
Resistor, 12Ω, ±5%, 750mW, 200V, ±100ppm/℃, -55℃~+155℃, SMD 1812; Manufacturer: Uniroyal; Manufacturer Part Number: FRC1812J120 TS; Supplier 1: LCSC; Supplier Part Number 1: C2933918; JLCPCB Part Number: C2933918; Power Rating: 750mW; Category: Resistors; Package Size: 1812; JLCPCB Basic Part: Yes; Tolerance: ±5%; Voltage Rating: 200V; Temperature Coefficient: ±100ppm/℃; Temperature Rating: -55℃~+155℃; ComponentLink1Description: Datasheet; ComponentLink1URL: https://wmsc.lcsc.com/wmsc/upload/file/pdf/v2/lcsc/2308241115_FOJAN-FRC1812J120-TS_C2933918.pdf; ComponentLink2Description: JLCPCB Part URL; ComponentLink2URL: https://jlcpcb.com/partdetail/C2933918
pins: 1, 2
1 alternate drawing of the same symbol

## FRC1812J121 TS
designator R?  Resistance: 120Ω  (hidden comment: *)
Resistor, 120Ω, ±5%, 750mW, 200V, ±100ppm/℃, -55℃~+155℃, SMD 1812; Manufacturer: Uniroyal; Manufacturer Part Number: FRC1812J121 TS; Supplier 1: LCSC; Supplier Part Number 1: C2933919; JLCPCB Part Number: C2933919; Power Rating: 750mW; Category: Resistors; Package Size: 1812; JLCPCB Basic Part: Yes; Tolerance: ±5%; Voltage Rating: 200V; Temperature Coefficient: ±100ppm/℃; Temperature Rating: -55℃~+155℃; ComponentLink1Description: Datasheet; ComponentLink1URL: https://wmsc.lcsc.com/wmsc/upload/file/pdf/v2/lcsc/2308241115_FOJAN-FRC1812J121-TS_C2933919.pdf; ComponentLink2Description: JLCPCB Part URL; ComponentLink2URL: https://jlcpcb.com/partdetail/C2933919
pins: 1, 2
1 alternate drawing of the same symbol

## FRC1812J122 TS
designator R?  Resistance: 1.2kΩ  (hidden comment: *)
Resistor, 1.2kΩ, ±5%, 750mW, 200V, ±100ppm/℃, -55℃~+155℃, SMD 1812; Manufacturer: Uniroyal; Manufacturer Part Number: FRC1812J122 TS; Supplier 1: LCSC; Supplier Part Number 1: C2933920; JLCPCB Part Number: C2933920; Power Rating: 750mW; Category: Resistors; Package Size: 1812; JLCPCB Basic Part: Yes; Tolerance: ±5%; Voltage Rating: 200V; Temperature Coefficient: ±100ppm/℃; Temperature Rating: -55℃~+155℃; ComponentLink1Description: Datasheet; ComponentLink1URL: https://wmsc.lcsc.com/wmsc/upload/file/pdf/v2/lcsc/2308241115_FOJAN-FRC1812J122-TS_C2933920.pdf; ComponentLink2Description: JLCPCB Part URL; ComponentLink2URL: https://jlcpcb.com/partdetail/C2933920
pins: 1, 2
1 alternate drawing of the same symbol

## FRC1812J123 TS
designator R?  Resistance: 12kΩ  (hidden comment: *)
Resistor, 12kΩ, ±5%, 750mW, 200V, ±100ppm/℃, -55℃~+155℃, SMD 1812; Manufacturer: Uniroyal; Manufacturer Part Number: FRC1812J123 TS; Supplier 1: LCSC; Supplier Part Number 1: C2974081; JLCPCB Part Number: C2974081; Power Rating: 750mW; Category: Resistors; Package Size: 1812; JLCPCB Basic Part: Yes; Tolerance: ±5%; Voltage Rating: 200V; Temperature Coefficient: ±100ppm/℃; Temperature Rating: -55℃~+155℃; ComponentLink1Description: Datasheet; ComponentLink1URL: https://wmsc.lcsc.com/wmsc/upload/file/pdf/v2/lcsc/2202151130_FOJAN-FRC1812J123-TS_C2974081.pdf; ComponentLink2Description: JLCPCB Part URL; ComponentLink2URL: https://jlcpcb.com/partdetail/C2974081
pins: 1, 2
1 alternate drawing of the same symbol

## FRC1812J150 TS
designator R?  Resistance: 15Ω  (hidden comment: *)
Resistor, 15Ω, ±5%, 750mW, 200V, ±100ppm/℃, -55℃~+155℃, SMD 1812; Manufacturer: Uniroyal; Manufacturer Part Number: FRC1812J150 TS; Supplier 1: LCSC; Supplier Part Number 1: C2933924; JLCPCB Part Number: C2933924; Power Rating: 750mW; Category: Resistors; Package Size: 1812; JLCPCB Basic Part: Yes; Tolerance: ±5%; Voltage Rating: 200V; Temperature Coefficient: ±100ppm/℃; Temperature Rating: -55℃~+155℃; ComponentLink1Description: Datasheet; ComponentLink1URL: https://wmsc.lcsc.com/wmsc/upload/file/pdf/v2/lcsc/2308241115_FOJAN-FRC1812J150-TS_C2933924.pdf; ComponentLink2Description: JLCPCB Part URL; ComponentLink2URL: https://jlcpcb.com/partdetail/C2933924
pins: 1, 2
1 alternate drawing of the same symbol

## FRC1812J151 TS
designator R?  Resistance: 150Ω  (hidden comment: *)
Resistor, 150Ω, ±5%, 750mW, 200V, ±100ppm/℃, -55℃~+155℃, SMD 1812; Manufacturer: Uniroyal; Manufacturer Part Number: FRC1812J151 TS; Supplier 1: LCSC; Supplier Part Number 1: C2933925; JLCPCB Part Number: C2933925; Power Rating: 750mW; Category: Resistors; Package Size: 1812; JLCPCB Basic Part: Yes; Tolerance: ±5%; Voltage Rating: 200V; Temperature Coefficient: ±100ppm/℃; Temperature Rating: -55℃~+155℃; ComponentLink1Description: Datasheet; ComponentLink1URL: https://wmsc.lcsc.com/wmsc/upload/file/pdf/v2/lcsc/2308241115_FOJAN-FRC1812J151-TS_C2933925.pdf; ComponentLink2Description: JLCPCB Part URL; ComponentLink2URL: https://jlcpcb.com/partdetail/C2933925
pins: 1, 2
1 alternate drawing of the same symbol

## FRC1812J152 TS
designator R?  Resistance: 1.5kΩ  (hidden comment: *)
Resistor, 1.5kΩ, ±5%, 750mW, 200V, ±100ppm/℃, -55℃~+155℃, SMD 1812; Manufacturer: Uniroyal; Manufacturer Part Number: FRC1812J152 TS; Supplier 1: LCSC; Supplier Part Number 1: C2933926; JLCPCB Part Number: C2933926; Power Rating: 750mW; Category: Resistors; Package Size: 1812; JLCPCB Basic Part: Yes; Tolerance: ±5%; Voltage Rating: 200V; Temperature Coefficient: ±100ppm/℃; Temperature Rating: -55℃~+155℃; ComponentLink1Description: Datasheet; ComponentLink1URL: https://wmsc.lcsc.com/wmsc/upload/file/pdf/v2/lcsc/2308241115_FOJAN-FRC1812J152-TS_C2933926.pdf; ComponentLink2Description: JLCPCB Part URL; ComponentLink2URL: https://jlcpcb.com/partdetail/C2933926
pins: 1, 2
1 alternate drawing of the same symbol

## FRC1812J153 TS
designator R?  Resistance: 15kΩ  (hidden comment: *)
Resistor, 15kΩ, ±5%, 750mW, 200V, ±100ppm/℃, -55℃~+155℃, SMD 1812; Manufacturer: Uniroyal; Manufacturer Part Number: FRC1812J153 TS; Supplier 1: LCSC; Supplier Part Number 1: C2933927; JLCPCB Part Number: C2933927; Power Rating: 750mW; Category: Resistors; Package Size: 1812; JLCPCB Basic Part: Yes; Tolerance: ±5%; Voltage Rating: 200V; Temperature Coefficient: ±100ppm/℃; Temperature Rating: -55℃~+155℃; ComponentLink1Description: Datasheet; ComponentLink1URL: https://wmsc.lcsc.com/wmsc/upload/file/pdf/v2/lcsc/2308241115_FOJAN-FRC1812J153-TS_C2933927.pdf; ComponentLink2Description: JLCPCB Part URL; ComponentLink2URL: https://jlcpcb.com/partdetail/C2933927
pins: 1, 2
1 alternate drawing of the same symbol

## FRC1812J154 TS
designator R?  Resistance: 150kΩ  (hidden comment: *)
Resistor, 150kΩ, ±5%, 750mW, 200V, ±100ppm/℃, -55℃~+155℃, SMD 1812; Manufacturer: Uniroyal; Manufacturer Part Number: FRC1812J154 TS; Supplier 1: LCSC; Supplier Part Number 1: C2960820; JLCPCB Part Number: C2960820; Power Rating: 750mW; Category: Resistors; Package Size: 1812; JLCPCB Basic Part: Yes; Tolerance: ±5%; Voltage Rating: 200V; Temperature Coefficient: ±100ppm/℃; Temperature Rating: -55℃~+155℃; ComponentLink1Description: Datasheet; ComponentLink1URL: https://wmsc.lcsc.com/wmsc/upload/file/pdf/v2/lcsc/2308241947_FOJAN-FRC1812J154-TS_C2960820.pdf; ComponentLink2Description: JLCPCB Part URL; ComponentLink2URL: https://jlcpcb.com/partdetail/C2960820
pins: 1, 2
1 alternate drawing of the same symbol

## FRC1812J180 TS
designator R?  Resistance: 18Ω  (hidden comment: *)
Resistor, 18Ω, ±5%, 750mW, 200V, ±100ppm/℃, -55℃~+155℃, SMD 1812; Manufacturer: Uniroyal; Manufacturer Part Number: FRC1812J180 TS; Supplier 1: LCSC; Supplier Part Number 1: C2933929; JLCPCB Part Number: C2933929; Power Rating: 750mW; Category: Resistors; Package Size: 1812; JLCPCB Basic Part: Yes; Tolerance: ±5%; Voltage Rating: 200V; Temperature Coefficient: ±100ppm/℃; Temperature Rating: -55℃~+155℃; ComponentLink1Description: Datasheet; ComponentLink1URL: https://wmsc.lcsc.com/wmsc/upload/file/pdf/v2/lcsc/2308241115_FOJAN-FRC1812J180-TS_C2933929.pdf; ComponentLink2Description: JLCPCB Part URL; ComponentLink2URL: https://jlcpcb.com/partdetail/C2933929
pins: 1, 2
1 alternate drawing of the same symbol

## FRC1812J181 TS
designator R?  Resistance: 180Ω  (hidden comment: *)
Resistor, 180Ω, ±5%, 750mW, 200V, ±100ppm/℃, -55℃~+155℃, SMD 1812; Manufacturer: Uniroyal; Manufacturer Part Number: FRC1812J181 TS; Supplier 1: LCSC; Supplier Part Number 1: C2960684; JLCPCB Part Number: C2960684; Power Rating: 750mW; Category: Resistors; Package Size: 1812; JLCPCB Basic Part: Yes; Tolerance: ±5%; Voltage Rating: 200V; Temperature Coefficient: ±100ppm/℃; Temperature Rating: -55℃~+155℃; ComponentLink1Description: Datasheet; ComponentLink1URL: https://wmsc.lcsc.com/wmsc/upload/file/pdf/v2/lcsc/2308241947_FOJAN-FRC1812J181-TS_C2960684.pdf; ComponentLink2Description: JLCPCB Part URL; ComponentLink2URL: https://jlcpcb.com/partdetail/C2960684
pins: 1, 2
1 alternate drawing of the same symbol

## FRC1812J200 TS
designator R?  Resistance: 20Ω  (hidden comment: *)
Resistor, 20Ω, ±5%, 750mW, 200V, ±100ppm/℃, -55℃~+155℃, SMD 1812; Manufacturer: Uniroyal; Manufacturer Part Number: FRC1812J200 TS; Supplier 1: LCSC; Supplier Part Number 1: C2933932; JLCPCB Part Number: C2933932; Power Rating: 750mW; Category: Resistors; Package Size: 1812; JLCPCB Basic Part: Yes; Tolerance: ±5%; Voltage Rating: 200V; Temperature Coefficient: ±100ppm/℃; Temperature Rating: -55℃~+155℃; ComponentLink1Description: Datasheet; ComponentLink1URL: https://wmsc.lcsc.com/wmsc/upload/file/pdf/v2/lcsc/2308241947_FOJAN-FRC1812J200-TS_C2933932.pdf; ComponentLink2Description: JLCPCB Part URL; ComponentLink2URL: https://jlcpcb.com/partdetail/C2933932
pins: 1, 2
1 alternate drawing of the same symbol

## FRC1812J201 TS
designator R?  Resistance: 200Ω  (hidden comment: *)
Resistor, 200Ω, ±5%, 750mW, 200V, ±100ppm/℃, -55℃~+155℃, SMD 1812; Manufacturer: Uniroyal; Manufacturer Part Number: FRC1812J201 TS; Supplier 1: LCSC; Supplier Part Number 1: C2933933; JLCPCB Part Number: C2933933; Power Rating: 750mW; Category: Resistors; Package Size: 1812; JLCPCB Basic Part: Yes; Tolerance: ±5%; Voltage Rating: 200V; Temperature Coefficient: ±100ppm/℃; Temperature Rating: -55℃~+155℃; ComponentLink1Description: Datasheet; ComponentLink1URL: https://wmsc.lcsc.com/wmsc/upload/file/pdf/v2/lcsc/2308241947_FOJAN-FRC1812J201-TS_C2933933.pdf; ComponentLink2Description: JLCPCB Part URL; ComponentLink2URL: https://jlcpcb.com/partdetail/C2933933
pins: 1, 2
1 alternate drawing of the same symbol

## FRC1812J202 TS
designator R?  Resistance: 2000Ω  (hidden comment: *)
Resistor, 2000Ω, ±5%, 750mW, 200V, ±100ppm/℃, -55℃~+155℃, SMD 1812; Manufacturer: Uniroyal; Manufacturer Part Number: FRC1812J202 TS; Supplier 1: LCSC; Supplier Part Number 1: C2933934; JLCPCB Part Number: C2933934; Power Rating: 750mW; Category: Resistors; Package Size: 1812; JLCPCB Basic Part: Yes; Tolerance: ±5%; Voltage Rating: 200V; Temperature Coefficient: ±100ppm/℃; Temperature Rating: -55℃~+155℃; ComponentLink1Description: Datasheet; ComponentLink1URL: https://wmsc.lcsc.com/wmsc/upload/file/pdf/v2/lcsc/2308241947_FOJAN-FRC1812J202-TS_C2933934.pdf; ComponentLink2Description: JLCPCB Part URL; ComponentLink2URL: https://jlcpcb.com/partdetail/C2933934
pins: 1, 2
1 alternate drawing of the same symbol

## FRC1812J203 TS
designator R?  Resistance: 20kΩ  (hidden comment: *)
Resistor, 20kΩ, ±5%, 750mW, 200V, ±100ppm/℃, -55℃~+155℃, SMD 1812; Manufacturer: Uniroyal; Manufacturer Part Number: FRC1812J203 TS; Supplier 1: LCSC; Supplier Part Number 1: C2933935; JLCPCB Part Number: C2933935; Power Rating: 750mW; Category: Resistors; Package Size: 1812; JLCPCB Basic Part: Yes; Tolerance: ±5%; Voltage Rating: 200V; Temperature Coefficient: ±100ppm/℃; Temperature Rating: -55℃~+155℃; ComponentLink1Description: Datasheet; ComponentLink1URL: https://wmsc.lcsc.com/wmsc/upload/file/pdf/v2/lcsc/2308241947_FOJAN-FRC1812J203-TS_C2933935.pdf; ComponentLink2Description: JLCPCB Part URL; ComponentLink2URL: https://jlcpcb.com/partdetail/C2933935
pins: 1, 2
1 alternate drawing of the same symbol

## FRC1812J204 TS
designator R?  Resistance: 200kΩ  (hidden comment: *)
Resistor, 200kΩ, ±5%, 750mW, 200V, ±100ppm/℃, -55℃~+155℃, SMD 1812; Manufacturer: Uniroyal; Manufacturer Part Number: FRC1812J204 TS; Supplier 1: LCSC; Supplier Part Number 1: C2933936; JLCPCB Part Number: C2933936; Power Rating: 750mW; Category: Resistors; Package Size: 1812; JLCPCB Basic Part: Yes; Tolerance: ±5%; Voltage Rating: 200V; Temperature Coefficient: ±100ppm/℃; Temperature Rating: -55℃~+155℃; ComponentLink1Description: Datasheet; ComponentLink1URL: https://wmsc.lcsc.com/wmsc/upload/file/pdf/v2/lcsc/2308241947_FOJAN-FRC1812J204-TS_C2933936.pdf; ComponentLink2Description: JLCPCB Part URL; ComponentLink2URL: https://jlcpcb.com/partdetail/C2933936
pins: 1, 2
1 alternate drawing of the same symbol

## FRC1812J220 TS
designator R?  Resistance: 22Ω  (hidden comment: *)
Resistor, 22Ω, ±5%, 750mW, 200V, ±100ppm/℃, -55℃~+155℃, SMD 1812; Manufacturer: Uniroyal; Manufacturer Part Number: FRC1812J220 TS; Supplier 1: LCSC; Supplier Part Number 1: C2933937; JLCPCB Part Number: C2933937; Power Rating: 750mW; Category: Resistors; Package Size: 1812; JLCPCB Basic Part: Yes; Tolerance: ±5%; Voltage Rating: 200V; Temperature Coefficient: ±100ppm/℃; Temperature Rating: -55℃~+155℃; ComponentLink1Description: Datasheet; ComponentLink1URL: https://wmsc.lcsc.com/wmsc/upload/file/pdf/v2/lcsc/2308241947_FOJAN-FRC1812J220-TS_C2933937.pdf; ComponentLink2Description: JLCPCB Part URL; ComponentLink2URL: https://jlcpcb.com/partdetail/C2933937
pins: 1, 2
1 alternate drawing of the same symbol